# EAGLE library part LTC4365HTS8#PBF (library LTC4365HTS8#PBF)
IC OVERVOLTAGE PROTECT Source: Datasheet <http://www.linear.com/docs/29832>
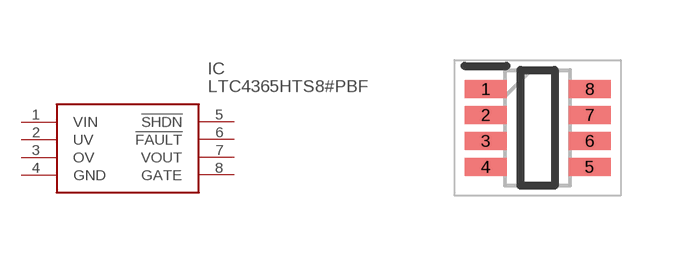
[diagram p0: symbol with the pads of SOT65P280X100-8N; footprint SOT65P280X100-8N]

Designator prefix IC

## LTC4365HTS8#PBF (Description: IC OVERVOLTAGE PROTECT; Height: 1mm; Manufacturer_Name: Analog Devices; Manufacturer_Part_Number: LTC4365HTS8#PBF)  [SOT65P280X100-8N]
1  VIN
2  UV
3  OV
4  GND
5  !SHDN
6  !FAULT
7  VOUT
8  GATE

## Footprint SOT65P280X100-8N (pad centres in mm)
8-Lead Plastic TSOT-23-1
smd 1.05 x 0.45: 1 -1.3,0.975; 2 -1.3,0.325; 3 -1.3,-0.325; 4 -1.3,-0.975; 5 1.3,-0.975; 6 1.3,-0.325; 7 1.3,0.325; 8 1.3,0.975